# Altium schematic symbol library EMG_Frozen_Placed_R4.SchLib: 153 symbols (part 2 of 3)
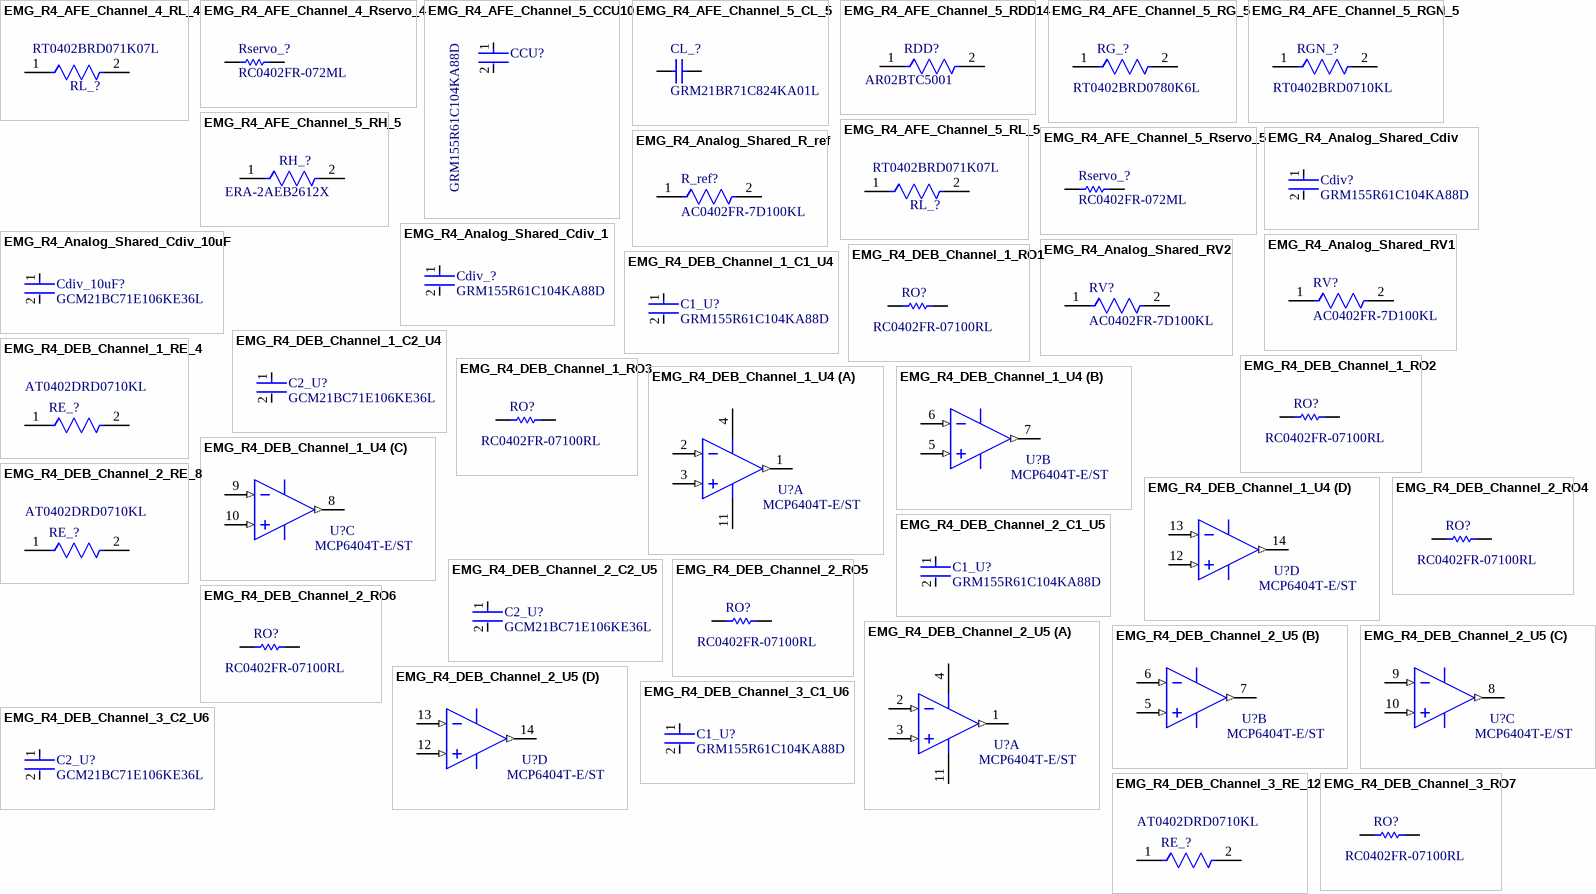
[diagram p5: symbols EMG_R4_AFE_Channel_4_RL_4 to EMG_R4_DEB_Channel_3_RO7]

## EMG_R4_AFE_Channel_5_RG_5
designator RG_?, comment RT0402BRD0780K6L
RES SMD 80.6KOHM 0.1% 1/16W 0402; Manufacturer: Yageo; Power Rating: 0.063W; Temperature Coefficient: 25 ppm/°C; Resistance: 80.6KΩ; Voltage Rating: 50V; Tolerance: 0.001; Value: 80.6KΩ; Manufacturer Part Number: RT0402BRD0780K6L; Device Class L2: Resistors; Temperature Range Low: -55°C; Device Class L3: Chip SMD Resistors; Temperature: -55°C to +155°C; Ipc Land Pattern Name: RESC10050X30; Mouser Description: Thin Film Resistors 1/16W 80.6K ohm .1% 25ppm; Footprint Url: http://www.yageo.com/exep/pages/download/literatures/PYu-R_Mount_10.pdf; Lead Free: Yes; Category: Res; Composition: Thin Film; RoHS: TRUE; Octopart: https://octopart.com/rt0402brd0780k6l-yageo-1468076; Automotive: No; ComponentLink2Description: Datasheet; Package: RT0402; Digikey Description: RES SMD 80.6KOHM 0.1% 1/16W 0402; Height: 0.35mm; Temperature Range High: +155°C; Device Class L1: Passive Components; Series: RT; ComponentLink2URL: http://www.yageo.com/documents/recent/PYu-RT_1-to-0.01_RoHS_L_9.pdf
footprint FP-RT0402-MFG
footprint FP-RT0402-IPC_C
footprint FP-RT0402-IPC_B
footprint FP-RT0402-IPC_A
pins: 1, 2

## EMG_R4_AFE_Channel_5_RGN_5
designator RGN_?, comment RT0402BRD0710KL
RES 10.0K OHM 1/16W .1% SMD 0402; Manufacturer: Yageo; Value: 10KΩ; Voltage Rating: 50V; Power Rating: 0.063W; Temperature Coefficient: 25 ppm/°C; Tolerance: 0.001; Height: 0.35mm; Ipc Land Pattern Name: RESC10050X30; Device Class L1: Passive Components; Mouser Description: Thin Film Resistors - SMD 10K ohm 0.1% 1/16W; ComponentLink2URL: http://www.yageo.com/documents/recent/PYu-RT_1-to-0.01_RoHS_L_9.pdf; Automotive: No; Series: RT; Package: RT0402; ComponentLink2Description: Datasheet; Footprint Url: http://www.yageo.com/exep/pages/download/literatures/PYu-R_Mount_10.pdf; Digikey Description: RES 10.0K OHM 1/16W .1% SMD 0402; Resistance: 10KΩ; Temperature Range High: +155°C; Device Class L3: Chip SMD Resistors; Manufacturer Part Number: RT0402BRD0710KL; Lead Free: Yes; Category: Res; Device Class L2: Resistors; RoHS: TRUE; Temperature Range Low: -55°C; Composition: Thin Film; Temperature: -55°C to +155°C; Octopart: https://octopart.com/rt0402brd0710kl-yageo-1181432
footprint FP-RT0402-MFG
footprint FP-RT0402-IPC_C
footprint FP-RT0402-IPC_B
footprint FP-RT0402-IPC_A
pins: 1, 2

## EMG_R4_AFE_Channel_5_RH_5
designator RH_?, comment ERA-2AEB2612X
RES 26.1kΩ ±0.1% 0.063W 0402; Manufacturer: PANASONIC; Max Power Dissipation: 63mW; Temperature Coefficient: 25ppm/°C; Voltage Rating: 50V; Power Rating: 62.5mW; Resistance: 26.1kR; Number of Terminations: 2; Termination: SMD/SMT; Case Code (Metric): 1005; Case/Package: 0402; RoHS Compliant: Yes; Width: 0.5mm; Max Operating Temperature: 155°C; Case Code (Imperial): 0402; Packaging: Tape and Reel; Features: Moisture Resistant; Height: 0.015inch; Length: 0.039inch; Series: ERA-2A; Resistor Type: Thin Film; Min Operating Temperature: -55°C; Tolerance: 0.1%; JLCPCB Part: C2075472
footprint FP-AC0402-IPC_A
footprint FP-AC0402-IPC_C
footprint FP-AC0402-MFG
footprint FP-AC0402-IPC_B
pins: 1, 2

## EMG_R4_AFE_Channel_5_RL_5
designator RL_?, comment RT0402BRD071K07L
RES SMD 1.07K OHM 0.1% 1/16W; Manufacturer: Yageo; Resistance: 1.07KΩ; Voltage Rating: 50V; Value: 1.07KΩ; Temperature Coefficient: 25 ppm/°C; Tolerance: 0.001; Power Rating: 0.063W; Composition: Thin Film; Height: 0.35mm; Octopart: https://octopart.com/rt0402brd071k07l-yageo-1400807; Package: RT0402; Device Class L3: Chip SMD Resistors; Manufacturer Part Number: RT0402BRD071K07L; ComponentLink2Description: Datasheet; Lead Free: Yes; Automotive: No; Device Class L1: Passive Components; Temperature Range Low: -55°C; RoHS: TRUE; Category: Res; Temperature Range High: +155°C; Mouser Description: Thin Film Resistors 1/16W 1.07K ohm .1% 25ppm; Device Class L2: Resistors; Digikey Description: RES SMD 1.07K OHM 0.1% 1/16W; Footprint Url: http://www.yageo.com/exep/pages/download/literatures/PYu-R_Mount_10.pdf; ComponentLink2URL: http://www.yageo.com/documents/recent/PYu-RT_1-to-0.01_RoHS_L_9.pdf; Ipc Land Pattern Name: RESC10050X30; Series: RT; Temperature: -55°C to +155°C
footprint FP-RT0402-MFG
footprint FP-RT0402-IPC_C
footprint FP-RT0402-IPC_B
footprint FP-RT0402-IPC_A
pins: 1, 2

## EMG_R4_AFE_Channel_5_Rservo_5
designator Rservo_?, comment RC0402FR-072ML
Manufacturer: Yageo / Phycomp; Part Number: RC0402FR-072ML
footprint RESC1005X40X25NL05T10 (Chip Resistor, 2-Leads, Body 1.00x0.50mm, IPC Medium Density)
footprint RESC1005X40X25LL05T10 (Chip Resistor, 2-Leads, Body 1.00x0.50mm, IPC High Density)
footprint RESC1005X40X25ML05T10 (Chip Resistor, 2-Leads, Body 1.00x0.50mm, IPC Low Density)
pins: 1, 2
1 alternate drawing of the same symbol

## EMG_R4_Analog_Shared_Cdiv
designator Cdiv?, comment GRM155R61C104KA88D
CAP CER 0.1UF 16V X5R 0402; Tolerance: 10%; Capacitance: 100nF; Size: 0.5mm; Case Code (Imperial): 0402; Voltage: 16V; REACH SVHC: No SVHC; Packaging: Tape and Reel; Case/Package: 0402; Package Quantity: 1; Max Operating Temperature: 85°C; Voltage Rating (DC): 16V; Min Operating Temperature: -55°C; Construction: Flat; Mount: Surface Mount; Voltage Rating: 16V; Thickness: 0.022inch; Depth: 0.5mm; Termination: SMD/SMT; Length: 1mm; Height: 0.5mm; Series: GRM; Radiation Hardening: No; Width: 0.02inch; RoHS Compliant: Yes; Lead Free: Lead Free; Case Code (Metric): 1005; Dielectric: X5R
footprint FP-GRM155-0_05-IPC_C
footprint FP-GRM155-0_05-MFG
footprint FP-GRM155-0_05-IPC_B
footprint FP-GRM155-0_05-IPC_A
pins: 1, 2

## EMG_R4_Analog_Shared_Cdiv_1
designator Cdiv_?, comment GRM155R61C104KA88D
CAP CER 0.1UF 16V X5R 0402; Tolerance: 10%; Capacitance: 100nF; Size: 0.5mm; Case Code (Imperial): 0402; Voltage: 16V; REACH SVHC: No SVHC; Packaging: Tape and Reel; Case/Package: 0402; Package Quantity: 1; Max Operating Temperature: 85°C; Voltage Rating (DC): 16V; Min Operating Temperature: -55°C; Construction: Flat; Mount: Surface Mount; Voltage Rating: 16V; Thickness: 0.022inch; Depth: 0.5mm; Termination: SMD/SMT; Length: 1mm; Height: 0.5mm; Series: GRM; Radiation Hardening: No; Width: 0.02inch; RoHS Compliant: Yes; Lead Free: Lead Free; Case Code (Metric): 1005; Dielectric: X5R
footprint FP-GRM155-0_05-IPC_C
footprint FP-GRM155-0_05-MFG
footprint FP-GRM155-0_05-IPC_B
footprint FP-GRM155-0_05-IPC_A
pins: 1, 2

## EMG_R4_Analog_Shared_Cdiv_10uF
designator Cdiv_10uF?, comment GCM21BC71E106KE36L
10 µF ±10% 25V Ceramic Capacitor X7S 0805 (2012 Metric)
footprint FP-GCM21B-0_2-e0_2_0_7-MFG
footprint FP-GCM21B-0_2-e0_2_0_7-IPC_C
footprint FP-GCM21B-0_2-e0_2_0_7-IPC_B
footprint FP-GCM21B-0_2-e0_2_0_7-IPC_A
pins: 1, 2

## EMG_R4_Analog_Shared_R_ref
designator R_ref?, comment AC0402FR-7D100KL
AC0402 100KΩ 0.0625W 1.00%; Manufacturer: Yageo; Automotive Grade: Grade 0; Voltage Rating: 50V; Tolerance: 0.01; Resistance: 100KΩ; Automotive: Yes; Device Class L1: Passive Components; Temperature Range High: +155°C; ComponentLink2URL: http://www.yageo.com/documents/recent/PYu-AC_51_RoHS_L_6.pdf; Footprint Url: http://www.yageo.com/exep/pages/download/literatures/PYu-R_Mount_10.pdf; Power Rating: 0.0625W; RoHS: TRUE; Category: Res; Package: AC0402; Octopart: https://octopart.com/ac0402fr-7d100kl-yageo-91024821; Device Class L2: Resistors; Series: AC; Height: 0.37mm; ComponentLink2Description: Datasheet; Lead Free: Yes; Temperature Range Low: -55°C; Value: 100KΩ; Temperature: -55°C to +155°C; Ipc Land Pattern Name: RESC10050X32; Device Class L3: Chip SMD Resistors; Manufacturer Part Number: AC0402FR-7D100KL; Composition: Thick Film
footprint FP-AC0402-MFG
footprint FP-AC0402-IPC_C
footprint FP-AC0402-IPC_B
footprint FP-AC0402-IPC_A
pins: 1, 2

## EMG_R4_Analog_Shared_RV1
designator RV?, comment AC0402FR-7D100KL
AC0402 100KΩ 0.0625W 1.00%; Manufacturer: Yageo; Automotive Grade: Grade 0; Voltage Rating: 50V; Tolerance: 0.01; Resistance: 100KΩ; Automotive: Yes; Device Class L1: Passive Components; Temperature Range High: +155°C; ComponentLink2URL: http://www.yageo.com/documents/recent/PYu-AC_51_RoHS_L_6.pdf; Footprint Url: http://www.yageo.com/exep/pages/download/literatures/PYu-R_Mount_10.pdf; Power Rating: 0.0625W; RoHS: TRUE; Category: Res; Package: AC0402; Octopart: https://octopart.com/ac0402fr-7d100kl-yageo-91024821; Device Class L2: Resistors; Series: AC; Height: 0.37mm; ComponentLink2Description: Datasheet; Lead Free: Yes; Temperature Range Low: -55°C; Value: 100KΩ; Temperature: -55°C to +155°C; Ipc Land Pattern Name: RESC10050X32; Device Class L3: Chip SMD Resistors; Manufacturer Part Number: AC0402FR-7D100KL; Composition: Thick Film
footprint FP-AC0402-MFG
footprint FP-AC0402-IPC_C
footprint FP-AC0402-IPC_B
footprint FP-AC0402-IPC_A
pins: 1, 2

## EMG_R4_Analog_Shared_RV2
designator RV?, comment AC0402FR-7D100KL
AC0402 100KΩ 0.0625W 1.00%; Manufacturer: Yageo; Automotive Grade: Grade 0; Voltage Rating: 50V; Tolerance: 0.01; Resistance: 100KΩ; Automotive: Yes; Device Class L1: Passive Components; Temperature Range High: +155°C; ComponentLink2URL: http://www.yageo.com/documents/recent/PYu-AC_51_RoHS_L_6.pdf; Footprint Url: http://www.yageo.com/exep/pages/download/literatures/PYu-R_Mount_10.pdf; Power Rating: 0.0625W; RoHS: TRUE; Category: Res; Package: AC0402; Octopart: https://octopart.com/ac0402fr-7d100kl-yageo-91024821; Device Class L2: Resistors; Series: AC; Height: 0.37mm; ComponentLink2Description: Datasheet; Lead Free: Yes; Temperature Range Low: -55°C; Value: 100KΩ; Temperature: -55°C to +155°C; Ipc Land Pattern Name: RESC10050X32; Device Class L3: Chip SMD Resistors; Manufacturer Part Number: AC0402FR-7D100KL; Composition: Thick Film
footprint FP-AC0402-MFG
footprint FP-AC0402-IPC_C
footprint FP-AC0402-IPC_B
footprint FP-AC0402-IPC_A
pins: 1, 2

## EMG_R4_DEB_Channel_1_C1_U4
designator C1_U?, comment GRM155R61C104KA88D
CAP CER 0.1UF 16V X5R 0402; Tolerance: 10%; Capacitance: 100nF; Size: 0.5mm; Case Code (Imperial): 0402; Voltage: 16V; REACH SVHC: No SVHC; Packaging: Tape and Reel; Case/Package: 0402; Package Quantity: 1; Max Operating Temperature: 85°C; Voltage Rating (DC): 16V; Min Operating Temperature: -55°C; Construction: Flat; Mount: Surface Mount; Voltage Rating: 16V; Thickness: 0.022inch; Depth: 0.5mm; Termination: SMD/SMT; Length: 1mm; Height: 0.5mm; Series: GRM; Radiation Hardening: No; Width: 0.02inch; RoHS Compliant: Yes; Lead Free: Lead Free; Case Code (Metric): 1005; Dielectric: X5R
footprint FP-GRM155-0_05-IPC_C
footprint FP-GRM155-0_05-MFG
footprint FP-GRM155-0_05-IPC_B
footprint FP-GRM155-0_05-IPC_A
pins: 1, 2

## EMG_R4_DEB_Channel_1_C2_U4
designator C2_U?, comment GCM21BC71E106KE36L
10 µF ±10% 25V Ceramic Capacitor X7S 0805 (2012 Metric)
footprint FP-GCM21B-0_2-e0_2_0_7-MFG
footprint FP-GCM21B-0_2-e0_2_0_7-IPC_C
footprint FP-GCM21B-0_2-e0_2_0_7-IPC_B
footprint FP-GCM21B-0_2-e0_2_0_7-IPC_A
pins: 1, 2

## EMG_R4_DEB_Channel_1_RE_4
designator RE_?, comment AT0402DRD0710KL
Thin Film Chip Resistors Automotive Grade 10kΩ 0.5% 25ppm/°C 0402; Resistance: 10kR; Max Power Dissipation: 63mW; Tolerance: 0.5%; Temperature Coefficient: 25ppm/°C; Width: 0.02inch; RoHS Compliant: Yes; Min Operating Temperature: -55°C; Height: 0.014inch; Case Code (Metric): 1005; Ratings: AEC-Q200; Case/Package: 0402; Max Operating Temperature: 155°C; Number of Terminations: 2; Features: Moisture Resistant; Packaging: Cut Tape; Length: 0.039inch; Series: AT; Resistor Type: Thin Film; Case Code (Imperial): 0402
footprint FP-AT0402-IPC_A
footprint FP-AT0402-IPC_C
footprint FP-AT0402-IPC_B
footprint FP-AT0402-MFG
pins: 1, 2

## EMG_R4_DEB_Channel_1_RO1
designator RO?, comment RC0402FR-07100RL
Manufacturer: Yageo / Phycomp; Part Number: RC0402FR-07100RL
footprint RESC1005X40X25ML05T10 (Chip Resistor, 2-Leads, Body 1.00x0.50mm, IPC Low Density)
footprint RESC1005X40X25NL05T10 (Chip Resistor, 2-Leads, Body 1.00x0.50mm, IPC Medium Density)
footprint RESC1005X40X25LL05T10 (Chip Resistor, 2-Leads, Body 1.00x0.50mm, IPC High Density)
pins: 1, 2
1 alternate drawing of the same symbol

## EMG_R4_DEB_Channel_1_RO2
designator RO?, comment RC0402FR-07100RL
Manufacturer: Yageo / Phycomp; Part Number: RC0402FR-07100RL
footprint RESC1005X40X25ML05T10 (Chip Resistor, 2-Leads, Body 1.00x0.50mm, IPC Low Density)
footprint RESC1005X40X25NL05T10 (Chip Resistor, 2-Leads, Body 1.00x0.50mm, IPC Medium Density)
footprint RESC1005X40X25LL05T10 (Chip Resistor, 2-Leads, Body 1.00x0.50mm, IPC High Density)
pins: 1, 2
1 alternate drawing of the same symbol

## EMG_R4_DEB_Channel_1_RO3
designator RO?, comment RC0402FR-07100RL
Manufacturer: Yageo / Phycomp; Part Number: RC0402FR-07100RL
footprint RESC1005X40X25ML05T10 (Chip Resistor, 2-Leads, Body 1.00x0.50mm, IPC Low Density)
footprint RESC1005X40X25NL05T10 (Chip Resistor, 2-Leads, Body 1.00x0.50mm, IPC Medium Density)
footprint RESC1005X40X25LL05T10 (Chip Resistor, 2-Leads, Body 1.00x0.50mm, IPC High Density)
pins: 1, 2
1 alternate drawing of the same symbol

## EMG_R4_DEB_Channel_1_U4
designator U?, comment MCP6404T-E/ST
None; Nominal Supply Current: 45uA; Power Supply Rejection Ratio (PSRR): 63dB; Unity Gain Bandwidth Product: 1MHz; Amplifier Type: GENERAL PURPOSE; Voltage Gain: 110dB; Number of Channels: 4; Output Current: 15mA; Max Supply Voltage: 6V; Min Supply Voltage: 1.8V; Slew Rate: 0.5V/µs; Input Bias Current: 100pA; Input Offset Voltage (Vos): 4.5mV; Common Mode Rejection Ratio: 56dB; EMG Symbol Revision: R3: physical supply pins 4 and 11 belong only to unit A; preserve on library update; Number of Pins: 14; Case/Package: TSSOP; Packaging: Tape and Reel; Technology: CMOS; Lead Free: Lead Free; Max Operating Temperature: 125°C; Mount: Surface Mount; Number of Circuits: 4; Number of Elements: 4; Supply Current: 45uA; RoHS Compliant: Yes; Gain Bandwidth Product: 1MHz; Min Operating Temperature: -40°C
footprint TSSOP-ST14_M (TSOP, 14-Leads, Body 5x4.4mm, Pitch 0.65mm, IPC Low Density)
footprint TSSOP-ST14_L (TSOP, 14-Leads, Body 5x4.4mm, Pitch 0.65mm, IPC High Density)
simulation model MCP6401
footprint TSSOP-ST14_N (TSOP, 14-Leads, Body 5x4.4mm, Pitch 0.65mm, IPC Medium Density)
part A pins: 1 VOUTA (out), 2 VINA- (in), 3 VINA+ (in), 4 VDD (power), 11 VSS (power)
part B pins: 5 VINB+ (in), 6 VINB- (in), 7 VOUTB (out)
part C pins: 8 VOUTC (out), 9 VINC- (in), 10 VINC+ (in)
part D pins: 12 VIND+ (in), 13 VIND- (in), 14 VOUTD (out)

## EMG_R4_DEB_Channel_2_C1_U5
designator C1_U?, comment GRM155R61C104KA88D
CAP CER 0.1UF 16V X5R 0402; Tolerance: 10%; Capacitance: 100nF; Size: 0.5mm; Case Code (Imperial): 0402; Voltage: 16V; REACH SVHC: No SVHC; Packaging: Tape and Reel; Case/Package: 0402; Package Quantity: 1; Max Operating Temperature: 85°C; Voltage Rating (DC): 16V; Min Operating Temperature: -55°C; Construction: Flat; Mount: Surface Mount; Voltage Rating: 16V; Thickness: 0.022inch; Depth: 0.5mm; Termination: SMD/SMT; Length: 1mm; Height: 0.5mm; Series: GRM; Radiation Hardening: No; Width: 0.02inch; RoHS Compliant: Yes; Lead Free: Lead Free; Case Code (Metric): 1005; Dielectric: X5R
footprint FP-GRM155-0_05-IPC_C
footprint FP-GRM155-0_05-MFG
footprint FP-GRM155-0_05-IPC_B
footprint FP-GRM155-0_05-IPC_A
pins: 1, 2

## EMG_R4_DEB_Channel_2_C2_U5
designator C2_U?, comment GCM21BC71E106KE36L
10 µF ±10% 25V Ceramic Capacitor X7S 0805 (2012 Metric)
footprint FP-GCM21B-0_2-e0_2_0_7-MFG
footprint FP-GCM21B-0_2-e0_2_0_7-IPC_C
footprint FP-GCM21B-0_2-e0_2_0_7-IPC_B
footprint FP-GCM21B-0_2-e0_2_0_7-IPC_A
pins: 1, 2

## EMG_R4_DEB_Channel_2_RE_8
designator RE_?, comment AT0402DRD0710KL
Thin Film Chip Resistors Automotive Grade 10kΩ 0.5% 25ppm/°C 0402; Resistance: 10kR; Max Power Dissipation: 63mW; Tolerance: 0.5%; Temperature Coefficient: 25ppm/°C; Width: 0.02inch; RoHS Compliant: Yes; Min Operating Temperature: -55°C; Height: 0.014inch; Case Code (Metric): 1005; Ratings: AEC-Q200; Case/Package: 0402; Max Operating Temperature: 155°C; Number of Terminations: 2; Features: Moisture Resistant; Packaging: Cut Tape; Length: 0.039inch; Series: AT; Resistor Type: Thin Film; Case Code (Imperial): 0402
footprint FP-AT0402-IPC_A
footprint FP-AT0402-IPC_C
footprint FP-AT0402-IPC_B
footprint FP-AT0402-MFG
pins: 1, 2

## EMG_R4_DEB_Channel_2_RO4
designator RO?, comment RC0402FR-07100RL
Manufacturer: Yageo / Phycomp; Part Number: RC0402FR-07100RL
footprint RESC1005X40X25ML05T10 (Chip Resistor, 2-Leads, Body 1.00x0.50mm, IPC Low Density)
footprint RESC1005X40X25NL05T10 (Chip Resistor, 2-Leads, Body 1.00x0.50mm, IPC Medium Density)
footprint RESC1005X40X25LL05T10 (Chip Resistor, 2-Leads, Body 1.00x0.50mm, IPC High Density)
pins: 1, 2
1 alternate drawing of the same symbol

## EMG_R4_DEB_Channel_2_RO5
designator RO?, comment RC0402FR-07100RL
Manufacturer: Yageo / Phycomp; Part Number: RC0402FR-07100RL
footprint RESC1005X40X25ML05T10 (Chip Resistor, 2-Leads, Body 1.00x0.50mm, IPC Low Density)
footprint RESC1005X40X25NL05T10 (Chip Resistor, 2-Leads, Body 1.00x0.50mm, IPC Medium Density)
footprint RESC1005X40X25LL05T10 (Chip Resistor, 2-Leads, Body 1.00x0.50mm, IPC High Density)
pins: 1, 2
1 alternate drawing of the same symbol

## EMG_R4_DEB_Channel_2_RO6
designator RO?, comment RC0402FR-07100RL
Manufacturer: Yageo / Phycomp; Part Number: RC0402FR-07100RL
footprint RESC1005X40X25ML05T10 (Chip Resistor, 2-Leads, Body 1.00x0.50mm, IPC Low Density)
footprint RESC1005X40X25NL05T10 (Chip Resistor, 2-Leads, Body 1.00x0.50mm, IPC Medium Density)
footprint RESC1005X40X25LL05T10 (Chip Resistor, 2-Leads, Body 1.00x0.50mm, IPC High Density)
pins: 1, 2
1 alternate drawing of the same symbol

## EMG_R4_DEB_Channel_2_U5
designator U?, comment MCP6404T-E/ST
None; Nominal Supply Current: 45uA; Power Supply Rejection Ratio (PSRR): 63dB; Unity Gain Bandwidth Product: 1MHz; Amplifier Type: GENERAL PURPOSE; Voltage Gain: 110dB; Number of Channels: 4; Output Current: 15mA; Max Supply Voltage: 6V; Min Supply Voltage: 1.8V; Slew Rate: 0.5V/µs; Input Bias Current: 100pA; Input Offset Voltage (Vos): 4.5mV; Common Mode Rejection Ratio: 56dB; EMG Symbol Revision: R3: physical supply pins 4 and 11 belong only to unit A; preserve on library update; Number of Pins: 14; Case/Package: TSSOP; Packaging: Tape and Reel; Technology: CMOS; Lead Free: Lead Free; Max Operating Temperature: 125°C; Mount: Surface Mount; Number of Circuits: 4; Number of Elements: 4; Supply Current: 45uA; RoHS Compliant: Yes; Gain Bandwidth Product: 1MHz; Min Operating Temperature: -40°C
footprint TSSOP-ST14_M (TSOP, 14-Leads, Body 5x4.4mm, Pitch 0.65mm, IPC Low Density)
footprint TSSOP-ST14_L (TSOP, 14-Leads, Body 5x4.4mm, Pitch 0.65mm, IPC High Density)
simulation model MCP6401
footprint TSSOP-ST14_N (TSOP, 14-Leads, Body 5x4.4mm, Pitch 0.65mm, IPC Medium Density)
part A pins: 1 VOUTA (out), 2 VINA- (in), 3 VINA+ (in), 4 VDD (power), 11 VSS (power)
part B pins: 5 VINB+ (in), 6 VINB- (in), 7 VOUTB (out)
part C pins: 8 VOUTC (out), 9 VINC- (in), 10 VINC+ (in)
part D pins: 12 VIND+ (in), 13 VIND- (in), 14 VOUTD (out)

## EMG_R4_DEB_Channel_3_C1_U6
designator C1_U?, comment GRM155R61C104KA88D
CAP CER 0.1UF 16V X5R 0402; Tolerance: 10%; Capacitance: 100nF; Size: 0.5mm; Case Code (Imperial): 0402; Voltage: 16V; REACH SVHC: No SVHC; Packaging: Tape and Reel; Case/Package: 0402; Package Quantity: 1; Max Operating Temperature: 85°C; Voltage Rating (DC): 16V; Min Operating Temperature: -55°C; Construction: Flat; Mount: Surface Mount; Voltage Rating: 16V; Thickness: 0.022inch; Depth: 0.5mm; Termination: SMD/SMT; Length: 1mm; Height: 0.5mm; Series: GRM; Radiation Hardening: No; Width: 0.02inch; RoHS Compliant: Yes; Lead Free: Lead Free; Case Code (Metric): 1005; Dielectric: X5R
footprint FP-GRM155-0_05-IPC_C
footprint FP-GRM155-0_05-MFG
footprint FP-GRM155-0_05-IPC_B
footprint FP-GRM155-0_05-IPC_A
pins: 1, 2

## EMG_R4_DEB_Channel_3_C2_U6
designator C2_U?, comment GCM21BC71E106KE36L
10 µF ±10% 25V Ceramic Capacitor X7S 0805 (2012 Metric)
footprint FP-GCM21B-0_2-e0_2_0_7-MFG
footprint FP-GCM21B-0_2-e0_2_0_7-IPC_C
footprint FP-GCM21B-0_2-e0_2_0_7-IPC_B
footprint FP-GCM21B-0_2-e0_2_0_7-IPC_A
pins: 1, 2

## EMG_R4_DEB_Channel_3_RE_12
designator RE_?, comment AT0402DRD0710KL
Thin Film Chip Resistors Automotive Grade 10kΩ 0.5% 25ppm/°C 0402; Resistance: 10kR; Max Power Dissipation: 63mW; Tolerance: 0.5%; Temperature Coefficient: 25ppm/°C; Width: 0.02inch; RoHS Compliant: Yes; Min Operating Temperature: -55°C; Height: 0.014inch; Case Code (Metric): 1005; Ratings: AEC-Q200; Case/Package: 0402; Max Operating Temperature: 155°C; Number of Terminations: 2; Features: Moisture Resistant; Packaging: Cut Tape; Length: 0.039inch; Series: AT; Resistor Type: Thin Film; Case Code (Imperial): 0402
footprint FP-AT0402-IPC_A
footprint FP-AT0402-IPC_C
footprint FP-AT0402-IPC_B
footprint FP-AT0402-MFG
pins: 1, 2

## EMG_R4_DEB_Channel_3_RO7
designator RO?, comment RC0402FR-07100RL
Manufacturer: Yageo / Phycomp; Part Number: RC0402FR-07100RL
footprint RESC1005X40X25ML05T10 (Chip Resistor, 2-Leads, Body 1.00x0.50mm, IPC Low Density)
footprint RESC1005X40X25NL05T10 (Chip Resistor, 2-Leads, Body 1.00x0.50mm, IPC Medium Density)
footprint RESC1005X40X25LL05T10 (Chip Resistor, 2-Leads, Body 1.00x0.50mm, IPC High Density)
pins: 1, 2
1 alternate drawing of the same symbol

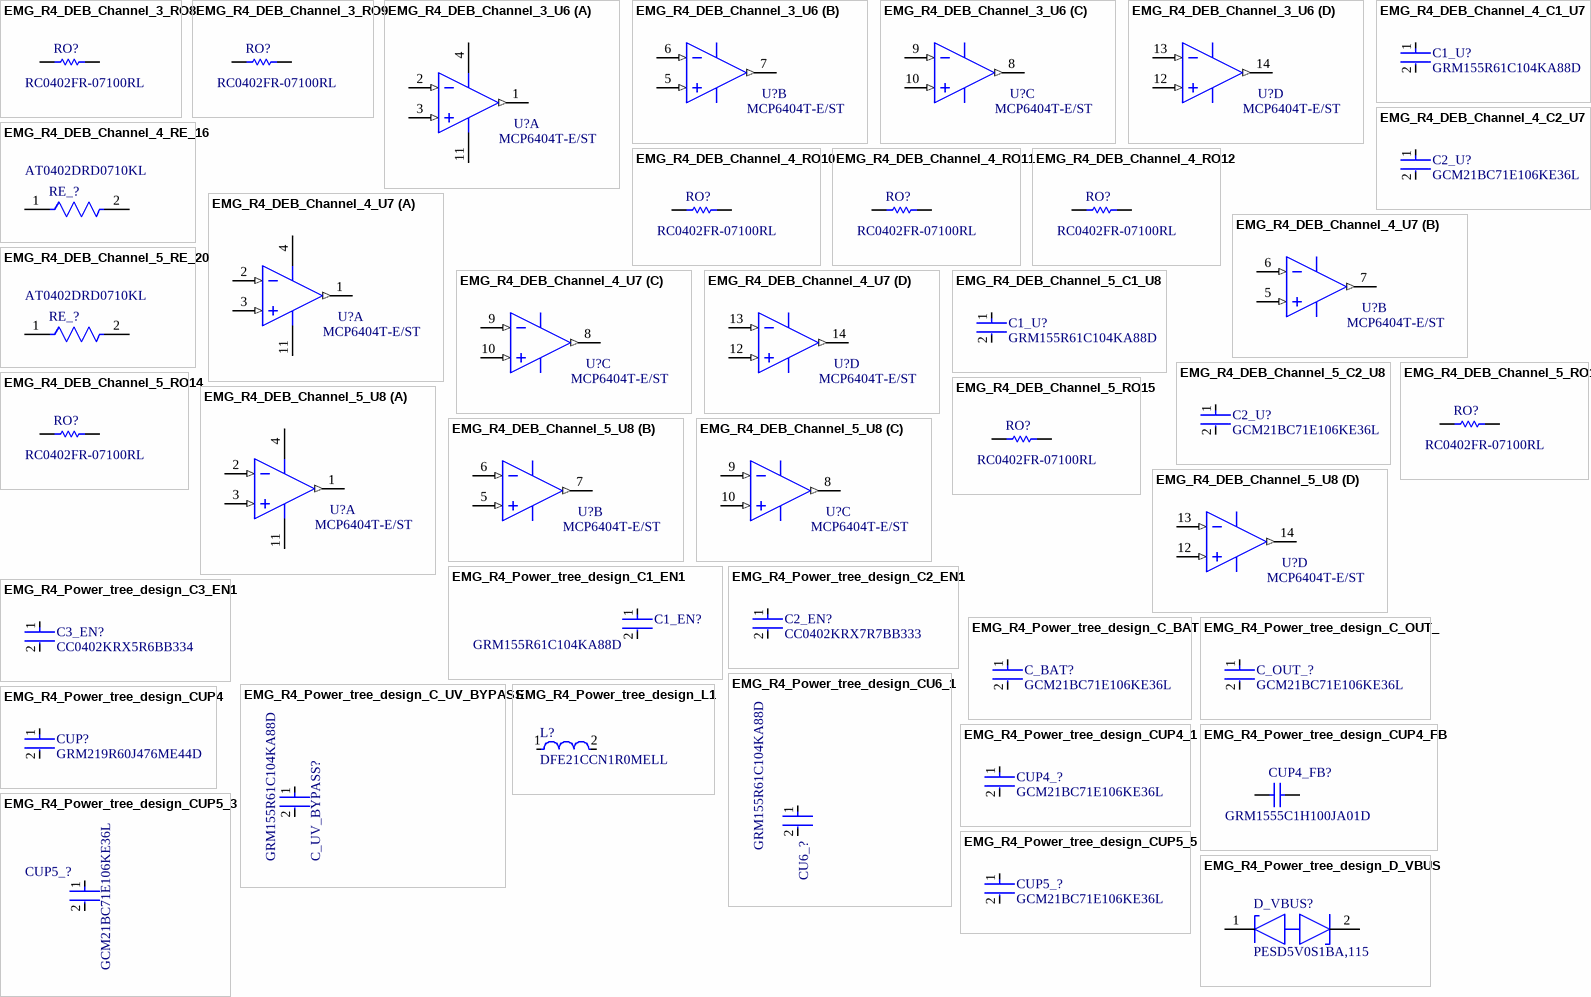
[diagram p2: symbols EMG_R4_DEB_Channel_3_RO8 to EMG_R4_Power_tree_design_L1]

## EMG_R4_DEB_Channel_3_RO8
designator RO?, comment RC0402FR-07100RL
Manufacturer: Yageo / Phycomp; Part Number: RC0402FR-07100RL
footprint RESC1005X40X25ML05T10 (Chip Resistor, 2-Leads, Body 1.00x0.50mm, IPC Low Density)
footprint RESC1005X40X25NL05T10 (Chip Resistor, 2-Leads, Body 1.00x0.50mm, IPC Medium Density)
footprint RESC1005X40X25LL05T10 (Chip Resistor, 2-Leads, Body 1.00x0.50mm, IPC High Density)
pins: 1, 2
1 alternate drawing of the same symbol

## EMG_R4_DEB_Channel_3_RO9
designator RO?, comment RC0402FR-07100RL
Manufacturer: Yageo / Phycomp; Part Number: RC0402FR-07100RL
footprint RESC1005X40X25ML05T10 (Chip Resistor, 2-Leads, Body 1.00x0.50mm, IPC Low Density)
footprint RESC1005X40X25NL05T10 (Chip Resistor, 2-Leads, Body 1.00x0.50mm, IPC Medium Density)
footprint RESC1005X40X25LL05T10 (Chip Resistor, 2-Leads, Body 1.00x0.50mm, IPC High Density)
pins: 1, 2
1 alternate drawing of the same symbol

## EMG_R4_DEB_Channel_3_U6
designator U?, comment MCP6404T-E/ST
None; Nominal Supply Current: 45uA; Power Supply Rejection Ratio (PSRR): 63dB; Unity Gain Bandwidth Product: 1MHz; Amplifier Type: GENERAL PURPOSE; Voltage Gain: 110dB; Number of Channels: 4; Output Current: 15mA; Max Supply Voltage: 6V; Min Supply Voltage: 1.8V; Slew Rate: 0.5V/µs; Input Bias Current: 100pA; Input Offset Voltage (Vos): 4.5mV; Common Mode Rejection Ratio: 56dB; EMG Symbol Revision: R3: physical supply pins 4 and 11 belong only to unit A; preserve on library update; Number of Pins: 14; Case/Package: TSSOP; Packaging: Tape and Reel; Technology: CMOS; Lead Free: Lead Free; Max Operating Temperature: 125°C; Mount: Surface Mount; Number of Circuits: 4; Number of Elements: 4; Supply Current: 45uA; RoHS Compliant: Yes; Gain Bandwidth Product: 1MHz; Min Operating Temperature: -40°C
footprint TSSOP-ST14_M (TSOP, 14-Leads, Body 5x4.4mm, Pitch 0.65mm, IPC Low Density)
footprint TSSOP-ST14_L (TSOP, 14-Leads, Body 5x4.4mm, Pitch 0.65mm, IPC High Density)
simulation model MCP6401
footprint TSSOP-ST14_N (TSOP, 14-Leads, Body 5x4.4mm, Pitch 0.65mm, IPC Medium Density)
part A pins: 1 VOUTA (out), 2 VINA- (in), 3 VINA+ (in), 4 VDD (power), 11 VSS (power)
part B pins: 5 VINB+ (in), 6 VINB- (in), 7 VOUTB (out)
part C pins: 8 VOUTC (out), 9 VINC- (in), 10 VINC+ (in)
part D pins: 12 VIND+ (in), 13 VIND- (in), 14 VOUTD (out)

## EMG_R4_DEB_Channel_4_C1_U7
designator C1_U?, comment GRM155R61C104KA88D
CAP CER 0.1UF 16V X5R 0402; Tolerance: 10%; Capacitance: 100nF; Size: 0.5mm; Case Code (Imperial): 0402; Voltage: 16V; REACH SVHC: No SVHC; Packaging: Tape and Reel; Case/Package: 0402; Package Quantity: 1; Max Operating Temperature: 85°C; Voltage Rating (DC): 16V; Min Operating Temperature: -55°C; Construction: Flat; Mount: Surface Mount; Voltage Rating: 16V; Thickness: 0.022inch; Depth: 0.5mm; Termination: SMD/SMT; Length: 1mm; Height: 0.5mm; Series: GRM; Radiation Hardening: No; Width: 0.02inch; RoHS Compliant: Yes; Lead Free: Lead Free; Case Code (Metric): 1005; Dielectric: X5R
footprint FP-GRM155-0_05-IPC_C
footprint FP-GRM155-0_05-MFG
footprint FP-GRM155-0_05-IPC_B
footprint FP-GRM155-0_05-IPC_A
pins: 1, 2

## EMG_R4_DEB_Channel_4_C2_U7
designator C2_U?, comment GCM21BC71E106KE36L
10 µF ±10% 25V Ceramic Capacitor X7S 0805 (2012 Metric)
footprint FP-GCM21B-0_2-e0_2_0_7-MFG
footprint FP-GCM21B-0_2-e0_2_0_7-IPC_C
footprint FP-GCM21B-0_2-e0_2_0_7-IPC_B
footprint FP-GCM21B-0_2-e0_2_0_7-IPC_A
pins: 1, 2

## EMG_R4_DEB_Channel_4_RE_16
designator RE_?, comment AT0402DRD0710KL
Thin Film Chip Resistors Automotive Grade 10kΩ 0.5% 25ppm/°C 0402; Resistance: 10kR; Max Power Dissipation: 63mW; Tolerance: 0.5%; Temperature Coefficient: 25ppm/°C; Width: 0.02inch; RoHS Compliant: Yes; Min Operating Temperature: -55°C; Height: 0.014inch; Case Code (Metric): 1005; Ratings: AEC-Q200; Case/Package: 0402; Max Operating Temperature: 155°C; Number of Terminations: 2; Features: Moisture Resistant; Packaging: Cut Tape; Length: 0.039inch; Series: AT; Resistor Type: Thin Film; Case Code (Imperial): 0402
footprint FP-AT0402-IPC_A
footprint FP-AT0402-IPC_C
footprint FP-AT0402-IPC_B
footprint FP-AT0402-MFG
pins: 1, 2

## EMG_R4_DEB_Channel_4_RO10
designator RO?, comment RC0402FR-07100RL
Manufacturer: Yageo / Phycomp; Part Number: RC0402FR-07100RL
footprint RESC1005X40X25ML05T10 (Chip Resistor, 2-Leads, Body 1.00x0.50mm, IPC Low Density)
footprint RESC1005X40X25NL05T10 (Chip Resistor, 2-Leads, Body 1.00x0.50mm, IPC Medium Density)
footprint RESC1005X40X25LL05T10 (Chip Resistor, 2-Leads, Body 1.00x0.50mm, IPC High Density)
pins: 1, 2
1 alternate drawing of the same symbol

## EMG_R4_DEB_Channel_4_RO11
designator RO?, comment RC0402FR-07100RL
Manufacturer: Yageo / Phycomp; Part Number: RC0402FR-07100RL
footprint RESC1005X40X25ML05T10 (Chip Resistor, 2-Leads, Body 1.00x0.50mm, IPC Low Density)
footprint RESC1005X40X25NL05T10 (Chip Resistor, 2-Leads, Body 1.00x0.50mm, IPC Medium Density)
footprint RESC1005X40X25LL05T10 (Chip Resistor, 2-Leads, Body 1.00x0.50mm, IPC High Density)
pins: 1, 2
1 alternate drawing of the same symbol

## EMG_R4_DEB_Channel_4_RO12
designator RO?, comment RC0402FR-07100RL
Manufacturer: Yageo / Phycomp; Part Number: RC0402FR-07100RL
footprint RESC1005X40X25ML05T10 (Chip Resistor, 2-Leads, Body 1.00x0.50mm, IPC Low Density)
footprint RESC1005X40X25NL05T10 (Chip Resistor, 2-Leads, Body 1.00x0.50mm, IPC Medium Density)
footprint RESC1005X40X25LL05T10 (Chip Resistor, 2-Leads, Body 1.00x0.50mm, IPC High Density)
pins: 1, 2
1 alternate drawing of the same symbol

## EMG_R4_DEB_Channel_4_U7
designator U?, comment MCP6404T-E/ST
None; Nominal Supply Current: 45uA; Power Supply Rejection Ratio (PSRR): 63dB; Unity Gain Bandwidth Product: 1MHz; Amplifier Type: GENERAL PURPOSE; Voltage Gain: 110dB; Number of Channels: 4; Output Current: 15mA; Max Supply Voltage: 6V; Min Supply Voltage: 1.8V; Slew Rate: 0.5V/µs; Input Bias Current: 100pA; Input Offset Voltage (Vos): 4.5mV; Common Mode Rejection Ratio: 56dB; EMG Symbol Revision: R3: physical supply pins 4 and 11 belong only to unit A; preserve on library update; Number of Pins: 14; Case/Package: TSSOP; Packaging: Tape and Reel; Technology: CMOS; Lead Free: Lead Free; Max Operating Temperature: 125°C; Mount: Surface Mount; Number of Circuits: 4; Number of Elements: 4; Supply Current: 45uA; RoHS Compliant: Yes; Gain Bandwidth Product: 1MHz; Min Operating Temperature: -40°C
footprint TSSOP-ST14_M (TSOP, 14-Leads, Body 5x4.4mm, Pitch 0.65mm, IPC Low Density)
footprint TSSOP-ST14_L (TSOP, 14-Leads, Body 5x4.4mm, Pitch 0.65mm, IPC High Density)
simulation model MCP6401
footprint TSSOP-ST14_N (TSOP, 14-Leads, Body 5x4.4mm, Pitch 0.65mm, IPC Medium Density)
part A pins: 1 VOUTA (out), 2 VINA- (in), 3 VINA+ (in), 4 VDD (power), 11 VSS (power)
part B pins: 5 VINB+ (in), 6 VINB- (in), 7 VOUTB (out)
part C pins: 8 VOUTC (out), 9 VINC- (in), 10 VINC+ (in)
part D pins: 12 VIND+ (in), 13 VIND- (in), 14 VOUTD (out)

## EMG_R4_DEB_Channel_5_C1_U8
designator C1_U?, comment GRM155R61C104KA88D
CAP CER 0.1UF 16V X5R 0402; Tolerance: 10%; Capacitance: 100nF; Size: 0.5mm; Case Code (Imperial): 0402; Voltage: 16V; REACH SVHC: No SVHC; Packaging: Tape and Reel; Case/Package: 0402; Package Quantity: 1; Max Operating Temperature: 85°C; Voltage Rating (DC): 16V; Min Operating Temperature: -55°C; Construction: Flat; Mount: Surface Mount; Voltage Rating: 16V; Thickness: 0.022inch; Depth: 0.5mm; Termination: SMD/SMT; Length: 1mm; Height: 0.5mm; Series: GRM; Radiation Hardening: No; Width: 0.02inch; RoHS Compliant: Yes; Lead Free: Lead Free; Case Code (Metric): 1005; Dielectric: X5R
footprint FP-GRM155-0_05-IPC_C
footprint FP-GRM155-0_05-MFG
footprint FP-GRM155-0_05-IPC_B
footprint FP-GRM155-0_05-IPC_A
pins: 1, 2

## EMG_R4_DEB_Channel_5_C2_U8
designator C2_U?, comment GCM21BC71E106KE36L
10 µF ±10% 25V Ceramic Capacitor X7S 0805 (2012 Metric)
footprint FP-GCM21B-0_2-e0_2_0_7-MFG
footprint FP-GCM21B-0_2-e0_2_0_7-IPC_C
footprint FP-GCM21B-0_2-e0_2_0_7-IPC_B
footprint FP-GCM21B-0_2-e0_2_0_7-IPC_A
pins: 1, 2

## EMG_R4_DEB_Channel_5_RE_20
designator RE_?, comment AT0402DRD0710KL
Thin Film Chip Resistors Automotive Grade 10kΩ 0.5% 25ppm/°C 0402; Resistance: 10kR; Max Power Dissipation: 63mW; Tolerance: 0.5%; Temperature Coefficient: 25ppm/°C; Width: 0.02inch; RoHS Compliant: Yes; Min Operating Temperature: -55°C; Height: 0.014inch; Case Code (Metric): 1005; Ratings: AEC-Q200; Case/Package: 0402; Max Operating Temperature: 155°C; Number of Terminations: 2; Features: Moisture Resistant; Packaging: Cut Tape; Length: 0.039inch; Series: AT; Resistor Type: Thin Film; Case Code (Imperial): 0402
footprint FP-AT0402-IPC_A
footprint FP-AT0402-IPC_C
footprint FP-AT0402-IPC_B
footprint FP-AT0402-MFG
pins: 1, 2

## EMG_R4_DEB_Channel_5_RO13
designator RO?, comment RC0402FR-07100RL
Manufacturer: Yageo / Phycomp; Part Number: RC0402FR-07100RL
footprint RESC1005X40X25ML05T10 (Chip Resistor, 2-Leads, Body 1.00x0.50mm, IPC Low Density)
footprint RESC1005X40X25NL05T10 (Chip Resistor, 2-Leads, Body 1.00x0.50mm, IPC Medium Density)
footprint RESC1005X40X25LL05T10 (Chip Resistor, 2-Leads, Body 1.00x0.50mm, IPC High Density)
pins: 1, 2
1 alternate drawing of the same symbol

## EMG_R4_DEB_Channel_5_RO14
designator RO?, comment RC0402FR-07100RL
Manufacturer: Yageo / Phycomp; Part Number: RC0402FR-07100RL
footprint RESC1005X40X25ML05T10 (Chip Resistor, 2-Leads, Body 1.00x0.50mm, IPC Low Density)
footprint RESC1005X40X25NL05T10 (Chip Resistor, 2-Leads, Body 1.00x0.50mm, IPC Medium Density)
footprint RESC1005X40X25LL05T10 (Chip Resistor, 2-Leads, Body 1.00x0.50mm, IPC High Density)
pins: 1, 2
1 alternate drawing of the same symbol

## EMG_R4_DEB_Channel_5_RO15
designator RO?, comment RC0402FR-07100RL
Manufacturer: Yageo / Phycomp; Part Number: RC0402FR-07100RL
footprint RESC1005X40X25ML05T10 (Chip Resistor, 2-Leads, Body 1.00x0.50mm, IPC Low Density)
footprint RESC1005X40X25NL05T10 (Chip Resistor, 2-Leads, Body 1.00x0.50mm, IPC Medium Density)
footprint RESC1005X40X25LL05T10 (Chip Resistor, 2-Leads, Body 1.00x0.50mm, IPC High Density)
pins: 1, 2
1 alternate drawing of the same symbol

## EMG_R4_DEB_Channel_5_U8
designator U?, comment MCP6404T-E/ST
None; Nominal Supply Current: 45uA; Power Supply Rejection Ratio (PSRR): 63dB; Unity Gain Bandwidth Product: 1MHz; Amplifier Type: GENERAL PURPOSE; Voltage Gain: 110dB; Number of Channels: 4; Output Current: 15mA; Max Supply Voltage: 6V; Min Supply Voltage: 1.8V; Slew Rate: 0.5V/µs; Input Bias Current: 100pA; Input Offset Voltage (Vos): 4.5mV; Common Mode Rejection Ratio: 56dB; EMG Symbol Revision: R3: physical supply pins 4 and 11 belong only to unit A; preserve on library update; Number of Pins: 14; Case/Package: TSSOP; Packaging: Tape and Reel; Technology: CMOS; Lead Free: Lead Free; Max Operating Temperature: 125°C; Mount: Surface Mount; Number of Circuits: 4; Number of Elements: 4; Supply Current: 45uA; RoHS Compliant: Yes; Gain Bandwidth Product: 1MHz; Min Operating Temperature: -40°C
footprint TSSOP-ST14_M (TSOP, 14-Leads, Body 5x4.4mm, Pitch 0.65mm, IPC Low Density)
footprint TSSOP-ST14_L (TSOP, 14-Leads, Body 5x4.4mm, Pitch 0.65mm, IPC High Density)
simulation model MCP6401
footprint TSSOP-ST14_N (TSOP, 14-Leads, Body 5x4.4mm, Pitch 0.65mm, IPC Medium Density)
part A pins: 1 VOUTA (out), 2 VINA- (in), 3 VINA+ (in), 4 VDD (power), 11 VSS (power)
part B pins: 5 VINB+ (in), 6 VINB- (in), 7 VOUTB (out)
part C pins: 8 VOUTC (out), 9 VINC- (in), 10 VINC+ (in)
part D pins: 12 VIND+ (in), 13 VIND- (in), 14 VOUTD (out)

## EMG_R4_Power_tree_design_C1_EN1
designator C1_EN?, comment GRM155R61C104KA88D
CAP CER 0.1UF 16V X5R 0402; Tolerance: 10%; Capacitance: 100nF; Size: 0.5mm; Case Code (Imperial): 0402; Voltage: 16V; REACH SVHC: No SVHC; Packaging: Tape and Reel; Case/Package: 0402; Package Quantity: 1; Max Operating Temperature: 85°C; Voltage Rating (DC): 16V; Min Operating Temperature: -55°C; Construction: Flat; Mount: Surface Mount; Voltage Rating: 16V; Thickness: 0.022inch; Depth: 0.5mm; Termination: SMD/SMT; Length: 1mm; Height: 0.5mm; Series: GRM; Radiation Hardening: No; Width: 0.02inch; RoHS Compliant: Yes; Lead Free: Lead Free; Case Code (Metric): 1005; Dielectric: X5R
footprint FP-GRM155-0_05-IPC_C
footprint FP-GRM155-0_05-MFG
footprint FP-GRM155-0_05-IPC_B
footprint FP-GRM155-0_05-IPC_A
pins: 1, 2

## EMG_R4_Power_tree_design_C2_EN1
designator C2_EN?, comment CC0402KRX7R7BB333
CAP CER 0.033UF 16V X7R 0402; Manufacturer: YAGEO; Temperature Coefficient: 30ppm/°C; Material: Ceramic; Capacitance: 33 nF; Tolerance: 0.1; Value: 33 nF; Automotive Grade: NA; Height: 0.55mm; Footprint Url: http://www.yageo.com/exep/pages/download/literatures/UPY-C_GEN_24.pdf; Voltage Rating: 16 V; ComponentLink2URL: http://www.yageo.com/documents/recent/UPY-GP_NP0_16V-to-50V_16.pdf; Temperature Characteristic: X7R; Temperature Range High: +125°C; Package: CC0402; Digikey Description: CAP CER 0.033UF 16V X7R 0402; Device Class L3: Ceramic Capacitors; Device Class L1: Passive Components; Mouser Description: Multilayer Ceramic Capacitors MLCC - SMD/SMT 33nF 16V X7R 10%; Manufacturer Part Number: CC0402KRX7R7BB333; RoHS: TRUE; Octopart: https://octopart.com/cc0402krx7r7bb333-yageo-9289202; Temperature Range Low: -55°C; Temperature: -55°C to +125°C; Device Class L2: Capacitors; Category: Cap; Lead Free: Yes; Automotive: No; ComponentLink2Description: Datasheet; Ipc Land Pattern Name: CAPC10050X50
footprint FP-CC0402-MFG
footprint FP-CC0402-IPC_C
footprint FP-CC0402-IPC_B
footprint FP-CC0402-IPC_A
pins: 1, 2

## EMG_R4_Power_tree_design_C3_EN1
designator C3_EN?, comment CC0402KRX5R6BB334
CAP CER 0.33UF 10V X5R 0402; Manufacturer: YAGEO; Automotive Grade: NA; Value: 330 nF; Temperature Coefficient: 30ppm/°C; Material: Ceramic; Tolerance: 0.1; ComponentLink2URL: http://www.yageo.com/documents/recent/UPY-GP_NP0_16V-to-50V_16.pdf; Device Class L2: Capacitors; Voltage Rating: 10 V; ComponentLink2Description: Datasheet; Package: CC0402; Device Class L3: Ceramic Capacitors; Digikey Description: CAP CER 0.33UF 10V X5R 0402; Device Class L1: Passive Components; Footprint Url: http://www.yageo.com/exep/pages/download/literatures/UPY-C_GEN_24.pdf; Temperature Characteristic: X5R; Octopart: https://octopart.com/cc0402krx5r6bb334-yageo-21548561; Automotive: No; Temperature: -55°C to +125°C; Lead Free: Yes; Temperature Range Low: -55°C; Height: 0.55mm; Ipc Land Pattern Name: CAPC10050X50; Category: Cap; Capacitance: 330 nF; Manufacturer Part Number: CC0402KRX5R6BB334; RoHS: TRUE; Mouser Description: 0402 330 nF 10 V ±10 % Tolerance X5R SMT Multilayer Ceramic Capacitor; Temperature Range High: +125°C
footprint FP-CC0402-MFG
footprint FP-CC0402-IPC_C
footprint FP-CC0402-IPC_B
footprint FP-CC0402-IPC_A
pins: 1, 2

## EMG_R4_Power_tree_design_C_BAT
designator C_BAT?, comment GCM21BC71E106KE36L
10 µF ±10% 25V Ceramic Capacitor X7S 0805 (2012 Metric)
footprint FP-GCM21B-0_2-e0_2_0_7-MFG
footprint FP-GCM21B-0_2-e0_2_0_7-IPC_C
footprint FP-GCM21B-0_2-e0_2_0_7-IPC_B
footprint FP-GCM21B-0_2-e0_2_0_7-IPC_A
pins: 1, 2

## EMG_R4_Power_tree_design_C_OUT_
designator C_OUT_?, comment GCM21BC71E106KE36L
10 µF ±10% 25V Ceramic Capacitor X7S 0805 (2012 Metric)
footprint FP-GCM21B-0_2-e0_2_0_7-MFG
footprint FP-GCM21B-0_2-e0_2_0_7-IPC_C
footprint FP-GCM21B-0_2-e0_2_0_7-IPC_B
footprint FP-GCM21B-0_2-e0_2_0_7-IPC_A
pins: 1, 2

## EMG_R4_Power_tree_design_C_UV_BYPASS
designator C_UV_BYPASS?, comment GRM155R61C104KA88D
CAP CER 0.1UF 16V X5R 0402; Tolerance: 10%; Capacitance: 100nF; Size: 0.5mm; Case Code (Imperial): 0402; Voltage: 16V; REACH SVHC: No SVHC; Packaging: Tape and Reel; Case/Package: 0402; Package Quantity: 1; Max Operating Temperature: 85°C; Voltage Rating (DC): 16V; Min Operating Temperature: -55°C; Construction: Flat; Mount: Surface Mount; Voltage Rating: 16V; Thickness: 0.022inch; Depth: 0.5mm; Termination: SMD/SMT; Length: 1mm; Height: 0.5mm; Series: GRM; Radiation Hardening: No; Width: 0.02inch; RoHS Compliant: Yes; Lead Free: Lead Free; Case Code (Metric): 1005; Dielectric: X5R
footprint FP-GRM155-0_05-IPC_C
footprint FP-GRM155-0_05-MFG
footprint FP-GRM155-0_05-IPC_B
footprint FP-GRM155-0_05-IPC_A
pins: 1, 2

## EMG_R4_Power_tree_design_CU6_1
designator CU6_?, comment GRM155R61C104KA88D
CAP CER 0.1UF 16V X5R 0402; Tolerance: 10%; Capacitance: 100nF; Size: 0.5mm; Case Code (Imperial): 0402; Voltage: 16V; REACH SVHC: No SVHC; Packaging: Tape and Reel; Case/Package: 0402; Package Quantity: 1; Max Operating Temperature: 85°C; Voltage Rating (DC): 16V; Min Operating Temperature: -55°C; Construction: Flat; Mount: Surface Mount; Voltage Rating: 16V; Thickness: 0.022inch; Depth: 0.5mm; Termination: SMD/SMT; Length: 1mm; Height: 0.5mm; Series: GRM; Radiation Hardening: No; Width: 0.02inch; RoHS Compliant: Yes; Lead Free: Lead Free; Case Code (Metric): 1005; Dielectric: X5R
footprint FP-GRM155-0_05-IPC_C
footprint FP-GRM155-0_05-MFG
footprint FP-GRM155-0_05-IPC_B
footprint FP-GRM155-0_05-IPC_A
pins: 1, 2

## EMG_R4_Power_tree_design_CUP4
designator CUP?, comment GRM219R60J476ME44D
Chip Multilayer Ceramic Capacitors for General Purpose, 0805, 47uF, X5R, 15%, 20%, 6.3V; Case Code (Metric): 2012; Voltage Rating: 6.3V; Case Code (Imperial): 0805; Max Operating Temperature: 85°C; Width: 0.049inch; Length: 0.079inch; Min Operating Temperature: -55°C; Mount: Surface Mount; Packaging: Tape and Reel; Case/Package: 0805; Thickness: 0.037inch; Capacitance: 47uF; Tolerance: 20%
footprint FP-GRM219-0_2-0_1-IPC_A
footprint FP-GRM219-0_2-0_1-IPC_C
footprint FP-GRM219-0_2-0_1-MFG
footprint FP-GRM219-0_2-0_1-IPC_B
pins: 1, 2

## EMG_R4_Power_tree_design_CUP4_1
designator CUP4_?, comment GCM21BC71E106KE36L
10 µF ±10% 25V Ceramic Capacitor X7S 0805 (2012 Metric)
footprint FP-GCM21B-0_2-e0_2_0_7-MFG
footprint FP-GCM21B-0_2-e0_2_0_7-IPC_C
footprint FP-GCM21B-0_2-e0_2_0_7-IPC_B
footprint FP-GCM21B-0_2-e0_2_0_7-IPC_A
pins: 1, 2

## EMG_R4_Power_tree_design_CUP4_FB
designator CUP4_FB?, comment GRM1555C1H100JA01D
Manufacturer: Murata; Part Number: GRM1555C1H100JA01D
footprint CAPC1005X55X25LL05T10 (Chip Capacitor, 2-Leads, Body 1.00x0.50mm, IPC High Density)
footprint CAPC1005X55X25ML05T10 (Chip Capacitor, 2-Leads, Body 1.00x0.50mm, IPC Low Density)
footprint CAPC1005X55X25NL05T10 (Chip Capacitor, 2-Leads, Body 1.00x0.50mm, IPC Medium Density)
pins: 1, 2
1 alternate drawing of the same symbol

## EMG_R4_Power_tree_design_CUP5_3
designator CUP5_?, comment GCM21BC71E106KE36L
10 µF ±10% 25V Ceramic Capacitor X7S 0805 (2012 Metric)
footprint FP-GCM21B-0_2-e0_2_0_7-MFG
footprint FP-GCM21B-0_2-e0_2_0_7-IPC_C
footprint FP-GCM21B-0_2-e0_2_0_7-IPC_B
footprint FP-GCM21B-0_2-e0_2_0_7-IPC_A
pins: 1, 2

## EMG_R4_Power_tree_design_CUP5_5
designator CUP5_?, comment GCM21BC71E106KE36L
10 µF ±10% 25V Ceramic Capacitor X7S 0805 (2012 Metric)
footprint FP-GCM21B-0_2-e0_2_0_7-MFG
footprint FP-GCM21B-0_2-e0_2_0_7-IPC_C
footprint FP-GCM21B-0_2-e0_2_0_7-IPC_B
footprint FP-GCM21B-0_2-e0_2_0_7-IPC_A
pins: 1, 2

## EMG_R4_Power_tree_design_D_VBUS
designator D_VBUS?, comment PESD5V0S1BA,115
TVS DIODE 5V 14V SOD323
footprint FP-SOD323-CA-MFG
footprint FP-SOD323-CA-IPC_C
footprint FP-SOD323-CA-IPC_B
footprint FP-SOD323-CA-IPC_A
pins: 1 K1, 2 K2

## EMG_R4_Power_tree_design_L1
designator L?, comment DFE21CCN1R0MELL
FIXED IND 1.0UH 3300MA NONAUTO
footprint FP-DFE21CC_EL-MFG
pins: 1, 2

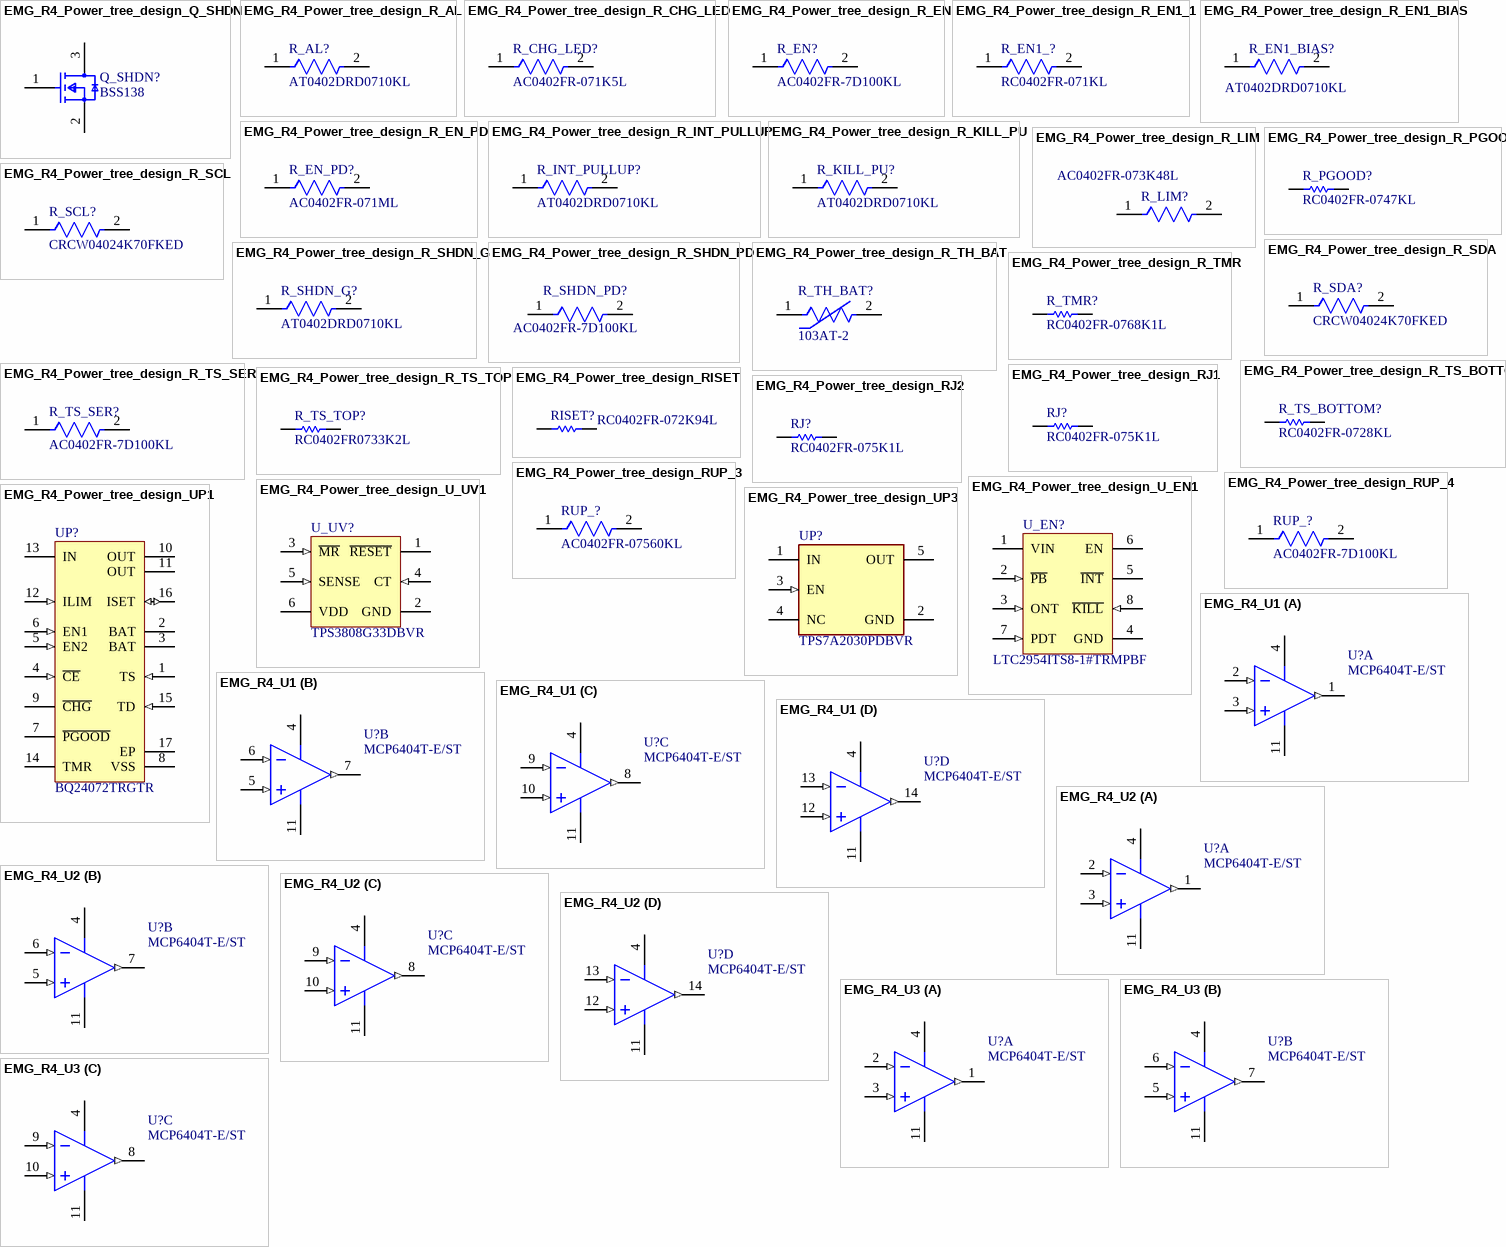
[diagram p3: symbols EMG_R4_Power_tree_design_Q_SHDN to EMG_R4_U3]

## EMG_R4_Power_tree_design_Q_SHDN
designator Q_SHDN?, comment BSS138
MOSFET N-CH 50V 220MA SOT-23; Turn-Off Delay Time: 20ns; Element Configuration: Single; Rds On Max: 3.5R; Gate to Source Voltage (Vgs): 20V; Threshold Voltage: 1.3V; Number of Elements: 1; Power Dissipation: 360mW; Rise Time: 9ns; Turn-On Delay Time: 2.5ns; Input Capacitance: 27pF; On-State Resistance: 6R; Lead Free: Lead Free; Length: 2.92mm; Width: 1.3mm; Drain to Source Breakdown Voltage: 50V; Min Operating Temperature: -55°C; REACH SVHC: No SVHC; Packaging: Tape and Reel; Radiation Hardening: No; Height: 0.93mm; Drain to Source Voltage (Vdss): 50V; Current Rating: 220mA; Voltage Rating (DC): 50V; Weight: 0.03g; Continuous Drain Current (ID): 220mA; Number of Pins: 3; Nominal Vgs: 1.3V; Max Power Dissipation: 360mW; Fall Time: 9ns; Drain to Source Resistance: 3.5R; Contact Plating: Tin; Case/Package: SOT-23; Package Quantity: 1; Dual Supply Voltage: 50V; Mount: Surface Mount; Termination: SMD/SMT; Max Operating Temperature: 150°C
footprint FP-318-08-IPC_B
footprint FP-318-08-MFG
footprint FP-318-08-IPC_A
footprint FP-318-08-IPC_C
pins: 1 G, 2 S, 3 D

## EMG_R4_Power_tree_design_R_AL
designator R_AL?, comment AT0402DRD0710KL
Thin Film Chip Resistors Automotive Grade 10kΩ 0.5% 25ppm/°C 0402; Resistance: 10kR; Max Power Dissipation: 63mW; Tolerance: 0.5%; Temperature Coefficient: 25ppm/°C; Width: 0.02inch; RoHS Compliant: Yes; Min Operating Temperature: -55°C; Height: 0.014inch; Case Code (Metric): 1005; Ratings: AEC-Q200; Case/Package: 0402; Max Operating Temperature: 155°C; Number of Terminations: 2; Features: Moisture Resistant; Packaging: Cut Tape; Length: 0.039inch; Series: AT; Resistor Type: Thin Film; Case Code (Imperial): 0402
footprint FP-AT0402-IPC_A
footprint FP-AT0402-IPC_C
footprint FP-AT0402-IPC_B
footprint FP-AT0402-MFG
pins: 1, 2

## EMG_R4_Power_tree_design_R_CHG_LED
designator R_CHG_LED?, comment AC0402FR-071K5L
RES 1.5kΩ ±1% 0.063W 0402; Max Power Dissipation: 63mW; Voltage Rating: 50V; Resistance: 1.5kR; Temperature Coefficient: 100ppm/°C; Power Rating: 62.5mW; Min Operating Temperature: -55°C; Features: Moisture Resistant; Series: AC; Mount: Surface Mount; Case Code (Metric): 1005; Termination: SMD/SMT; Size Code: 0402; Max Operating Temperature: 155°C; Tolerance: 1%; Resistor Type: Thick Film; Height: 0.015inch; Packaging: Tape and Reel; Length: 0.039inch; Width: 0.5mm; Case Code (Imperial): 0402; Lead Free: Lead Free; Case/Package: 0402; Number of Terminations: 2; RoHS Compliant: Yes
footprint FP-AC0402-MFG
footprint FP-AC0402-IPC_C
footprint FP-AC0402-IPC_A
footprint FP-AC0402-IPC_B
pins: 1, 2

## EMG_R4_Power_tree_design_R_EN
designator R_EN?, comment AC0402FR-7D100KL
AC0402 100KΩ 0.0625W 1.00%; Manufacturer: Yageo; Automotive Grade: Grade 0; Voltage Rating: 50V; Tolerance: 0.01; Resistance: 100KΩ; Automotive: Yes; Device Class L1: Passive Components; Temperature Range High: +155°C; ComponentLink2URL: http://www.yageo.com/documents/recent/PYu-AC_51_RoHS_L_6.pdf; Footprint Url: http://www.yageo.com/exep/pages/download/literatures/PYu-R_Mount_10.pdf; Power Rating: 0.0625W; RoHS: TRUE; Category: Res; Package: AC0402; Octopart: https://octopart.com/ac0402fr-7d100kl-yageo-91024821; Device Class L2: Resistors; Series: AC; Height: 0.37mm; ComponentLink2Description: Datasheet; Lead Free: Yes; Temperature Range Low: -55°C; Value: 100KΩ; Temperature: -55°C to +155°C; Ipc Land Pattern Name: RESC10050X32; Device Class L3: Chip SMD Resistors; Manufacturer Part Number: AC0402FR-7D100KL; Composition: Thick Film
footprint FP-AC0402-MFG
footprint FP-AC0402-IPC_C
footprint FP-AC0402-IPC_B
footprint FP-AC0402-IPC_A
pins: 1, 2

## EMG_R4_Power_tree_design_R_EN1_1
designator R_EN1_?, comment RC0402FR-071KL
RES 1K OHM 1% 1/16W 0402; Max Power Dissipation: 63mW; Resistance: 1kR; Voltage Rating (DC): 50V; Temperature Coefficient: 100ppm/°C; Power Rating: 62.5mW; Technology: THICK FILM; Size Code: 0402; Series: RC; Length: 1mm; Case/Package: 0402; Features: Moisture Resistant; Termination: SMD/SMT; Case Code (Metric): 1005; Reach SVHC Compliant: Yes; Number of Terminations: 2; Tolerance: 1%; Lead Free: Lead Free; Military Standard: Not; Resistor Type: Thick Film; Max Operating Temperature: 155°C; RoHS Compliant: Yes; Construction: Rectangular; Voltage Rating: 50V; Packaging: Tape and Reel; Height: 0.32mm; Number of Pins: 2; Resistance Tolerance: 1%; Case Code (Imperial): 0402; Depth: 0.5mm; Min Operating Temperature: -55°C; Width: 0.5mm
footprint FP-RC0402-0_4-IPC_A
footprint FP-RC0402-0_4-IPC_B
footprint FP-RC0402-0_4-MFG
footprint FP-RC0402-0_4-IPC_C
pins: 1, 2

## EMG_R4_Power_tree_design_R_EN1_BIAS
designator R_EN1_BIAS?, comment AT0402DRD0710KL
Thin Film Chip Resistors Automotive Grade 10kΩ 0.5% 25ppm/°C 0402; Resistance: 10kR; Max Power Dissipation: 63mW; Tolerance: 0.5%; Temperature Coefficient: 25ppm/°C; Width: 0.02inch; RoHS Compliant: Yes; Min Operating Temperature: -55°C; Height: 0.014inch; Case Code (Metric): 1005; Ratings: AEC-Q200; Case/Package: 0402; Max Operating Temperature: 155°C; Number of Terminations: 2; Features: Moisture Resistant; Packaging: Cut Tape; Length: 0.039inch; Series: AT; Resistor Type: Thin Film; Case Code (Imperial): 0402
footprint FP-AT0402-IPC_A
footprint FP-AT0402-IPC_C
footprint FP-AT0402-IPC_B
footprint FP-AT0402-MFG
pins: 1, 2

## EMG_R4_Power_tree_design_R_EN_PD
designator R_EN_PD?, comment AC0402FR-071ML
RES 1MΩ ±1% 0.063W 0402; Power Rating: 62.5mW; Max Power Dissipation: 63mW; Temperature Coefficient: 100ppm/°C; Resistance: 1MR; Voltage Rating: 50V; Packaging: Tape and Reel; Lead Free: Lead Free; Depth: 0.5mm; Series: AC; Length: 0.039inch; Resistor Type: Thick Film; Termination: SMD/SMT; Military Standard: Not; Case/Package: 0402; Min Operating Temperature: -55°C; Tolerance: 1%; Features: Moisture Resistant; Size Code: 0402; Case Code (Imperial): 0402; Number of Terminations: 2; Width: 0.5mm; Construction: Rectangular; Height: 0.015inch; RoHS Compliant: Yes; Case Code (Metric): 1005; Max Operating Temperature: 155°C
footprint FP-AC0402-IPC_A
footprint FP-AC0402-MFG
footprint FP-AC0402-IPC_B
footprint FP-AC0402-IPC_C
pins: 1, 2

## EMG_R4_Power_tree_design_R_INT_PULLUP
designator R_INT_PULLUP?, comment AT0402DRD0710KL
Thin Film Chip Resistors Automotive Grade 10kΩ 0.5% 25ppm/°C 0402; Resistance: 10kR; Max Power Dissipation: 63mW; Tolerance: 0.5%; Temperature Coefficient: 25ppm/°C; Width: 0.02inch; RoHS Compliant: Yes; Min Operating Temperature: -55°C; Height: 0.014inch; Case Code (Metric): 1005; Ratings: AEC-Q200; Case/Package: 0402; Max Operating Temperature: 155°C; Number of Terminations: 2; Features: Moisture Resistant; Packaging: Cut Tape; Length: 0.039inch; Series: AT; Resistor Type: Thin Film; Case Code (Imperial): 0402
footprint FP-AT0402-IPC_A
footprint FP-AT0402-IPC_C
footprint FP-AT0402-IPC_B
footprint FP-AT0402-MFG
pins: 1, 2

## EMG_R4_Power_tree_design_R_KILL_PU
designator R_KILL_PU?, comment AT0402DRD0710KL
Thin Film Chip Resistors Automotive Grade 10kΩ 0.5% 25ppm/°C 0402; Resistance: 10kR; Max Power Dissipation: 63mW; Tolerance: 0.5%; Temperature Coefficient: 25ppm/°C; Width: 0.02inch; RoHS Compliant: Yes; Min Operating Temperature: -55°C; Height: 0.014inch; Case Code (Metric): 1005; Ratings: AEC-Q200; Case/Package: 0402; Max Operating Temperature: 155°C; Number of Terminations: 2; Features: Moisture Resistant; Packaging: Cut Tape; Length: 0.039inch; Series: AT; Resistor Type: Thin Film; Case Code (Imperial): 0402
footprint FP-AT0402-IPC_A
footprint FP-AT0402-IPC_C
footprint FP-AT0402-IPC_B
footprint FP-AT0402-MFG
pins: 1, 2

## EMG_R4_Power_tree_design_R_LIM
designator R_LIM?, comment AC0402FR-073K48L
RES 3.48kΩ ±1% 0.063W 0402; Resistance: 3.48kR; Temperature Coefficient: 100ppm/°C; Max Power Dissipation: 63mW; Features: Moisture Resistant; Case/Package: 0402; Tolerance: 1%; Case Code (Metric): 1005; Series: AC; Ratings: AEC-Q200; Resistor Type: Thick Film; Width: 0.02inch; Packaging: Tape and Reel; RoHS Compliant: Yes; Number of Terminations: 2; Case Code (Imperial): 0402; Height: 0.015inch; Length: 0.039inch; Max Operating Temperature: 155°C; Min Operating Temperature: -55°C
footprint FP-AC0402-MFG
footprint FP-AC0402-IPC_C
footprint FP-AC0402-IPC_A
footprint FP-AC0402-IPC_B
pins: 1, 2

## EMG_R4_Power_tree_design_R_PGOOD
designator R_PGOOD?, comment RC0402FR-0747KL
Manufacturer: Yageo / Phycomp; Part Number: RC0402FR-0747KL
footprint RESC1005X40X25ML05T10 (Chip Resistor, 2-Leads, Body 1.00x0.50mm, IPC Low Density)
footprint RESC1005X40X25LL05T10 (Chip Resistor, 2-Leads, Body 1.00x0.50mm, IPC High Density)
footprint RESC1005X40X25NL05T10 (Chip Resistor, 2-Leads, Body 1.00x0.50mm, IPC Medium Density)
pins: 1, 2
1 alternate drawing of the same symbol